# Altium footprint library MD60S.PcbLib: 1 footprints
Each footprint in its own frame and in the unit in brackets; x right, y up, seen from the top. Pads: shape width x height; smd on the part's side, far side on the other; paste and mask are expansions set on the pad; w line width, h text height; cw(c..) or ccw(c..) is an arc to the next point about the centre after c.
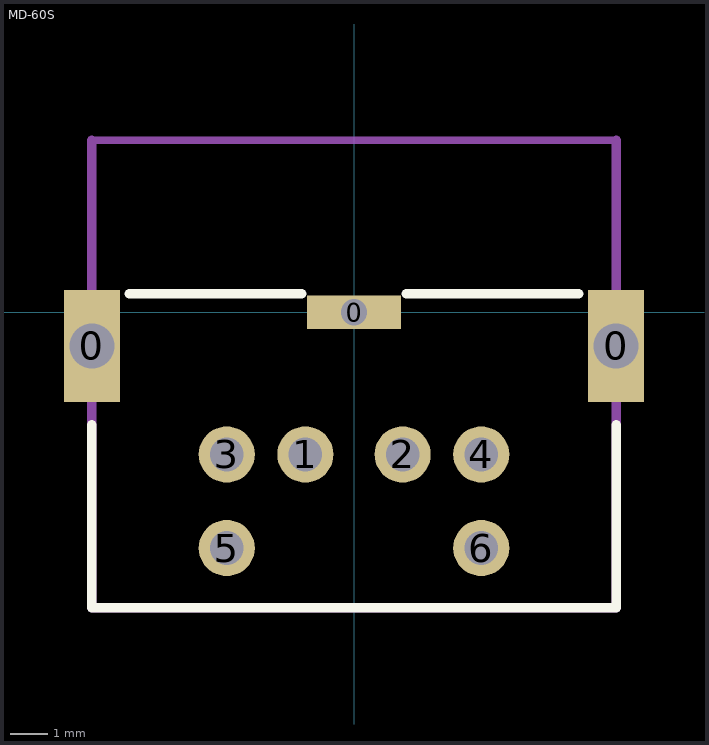
[diagram p0: the footprint, top view; thin cyan lines are the x and y axes]

## MD-60S [mm]
pads (9):
  rect 1.5x3 hole 1.2 square: 0(-7,-0.9) 0(7,-0.9)
  rect 2.5x0.9 hole 0.7 square: 0(0,0)
  round 1.5 hole 0.9: 1(-1.3,-3.8) 2(1.3,-3.8) 3(-3.4,-3.8) 4(3.4,-3.8) 5(-3.4,-6.3) 6(3.4,-6.3)
Top Overlay:
  lines w0.254: -7,-3 -7,-7.9 7,-7.9 7,-3 ; -6,0.5 -1.4,0.5 ; 1.4,0.5 6,0.5
Mechanical 5:
  lines w0.254: -7,-7.9 7,-7.9
Mechanical 4:
  lines w0.2: -7,4.6 7,4.6
  lines w0.254: -7,-7.9 -7,4.6 ; 7,-7.9 7,4.6